# Altium schematic symbol library Schlib1.SchLib: 1 symbol
Pins are listed as number, name and electrical type; pins without a type are passive.

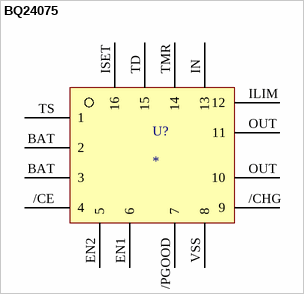
[diagram p0: symbol BQ24075]

## BQ24075
designator U?
footprint BQ24075 - duplicate
pins: /CE 4, /CHG 9, /PGOOD 7, BAT 2, BAT 3, EN1 6, EN2 5, ILIM 12, IN 13, ISET 16, OUT 11, OUT 10, TD 15, TMR 14, TS 1, VSS 8